# Altium footprint library 1_1740194_2.PcbLib: 1 footprints
Each footprint in its own frame and in the unit in brackets; x right, y up, seen from the top. Pads: shape width x height; smd on the part's side, far side on the other; paste and mask are expansions set on the pad; w line width, h text height; cw(c..) or ccw(c..) is an arc to the next point about the centre after c.
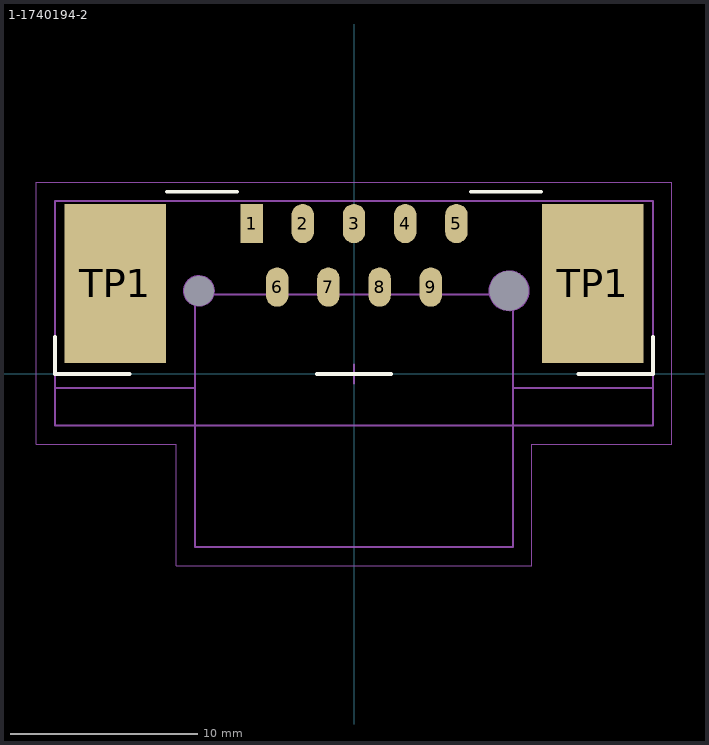
[diagram p0: the footprint, top view; thin cyan lines are the x and y axes]

## 1-1740194-2 [mm] "PCB D-Sub 9 Pins Connectors"
height 12.5
pads (13):
  rect 1.2x2.1 smd: 1(-5.48,8.05)
  oval 1.2x2.1 smd: 2(-2.74,8.05) 3(0,8.05) 4(2.74,8.05) 5(5.48,8.05) 6(-4.11,4.65) 7(-1.37,4.65) 8(1.37,4.65) 9(4.11,4.65)
  rect 5.45x8.5 smd: TP1(-12.775,4.85) TP1(12.775,4.85)
  round 0 hole 1.6: ""(-8.3,4.45)
  round 0 hole 2.1: ""(8.3,4.45)
Top Overlay:
  lines w0.2: -16,2 -16,0 -12,0 ; -10,9.75 -6.25,9.75 ; -2,0 0,0 2,0 ; 6.25,9.75 10,9.75 ; 12,0 16,0 16,2
Top Comment:
  text ".Comment" at 1,10.5 h1.2
Top Designator:
  text ".Designator" at 0,10.5 h1.2
Top Component Outline:
  circle w0.1: c8.3,4.45 r1.05
  circle w0.1: c-8.3,4.45 r0.8
  lines w0.1: -16,-0.75 -8.5,-0.75 ; 16,-0.75 8.5,-0.75 ; -8.5,-0.75 -8.5,4.25 8.5,4.25 8.5,-0.75 ; -8.5,-0.75 -8.5,-2.75 -8.5,-9.25 8.5,-9.25 8.5,-2.75 8.5,-0.75 ; -16,-2.75 16,-2.75 16,6.75 16,9.25 -16,9.25 -16,6.75 -16,-2.75
Top Courtyard:
  lines w0.05: -17,-3.75 -9.5,-3.75 -9.5,-10.25 9.5,-10.25 9.5,-3.75 17,-3.75 17,10.25 -17,10.25 -17,-3.75
  lines w0.1: -0.5,0 0.5,0 ; 0,-0.5 0,0 0,0.5
3D body "c-1-1740194-2-d-3d.stp": height 9.87, standoff -2.63, extent -15.4,-8.75 15.4,8.75